# Altium schematic symbol library MMBT2222.SchLib: 1 symbol
Pins are listed as number, name and electrical type; pins without a type are passive.

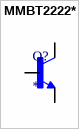
[diagram p0: symbol MMBT2222*]

## MMBT2222*
designator Q?
Bipolar (BJT) Transistor NPN 30 V 600 mA 250MHz 300 mW Surface Mount SOT-23-3 (TO-236); MF: ON Semiconductor; MP: MMBT2222; SnapEDA_Link: https://www.snapeda.com/parts/MMBT2222/Onsemi/view-part/?ref=snap; Package: SOT-23-3 Fairchild Semiconductor; Value: *; Check_prices: https://www.snapeda.com/parts/MMBT2222/Onsemi/view-part/?ref=eda
footprint SOT23-BEC
pins: B, C, E